# Altium footprint library DMG3414UQ-7.PcbLib: 2 footprints
Each footprint in its own frame and in the unit in brackets; x right, y up, seen from the top. Pads: shape width x height; smd on the part's side, far side on the other; paste and mask are expansions set on the pad; w line width, h text height; cw(c..) or ccw(c..) is an arc to the next point about the centre after c.
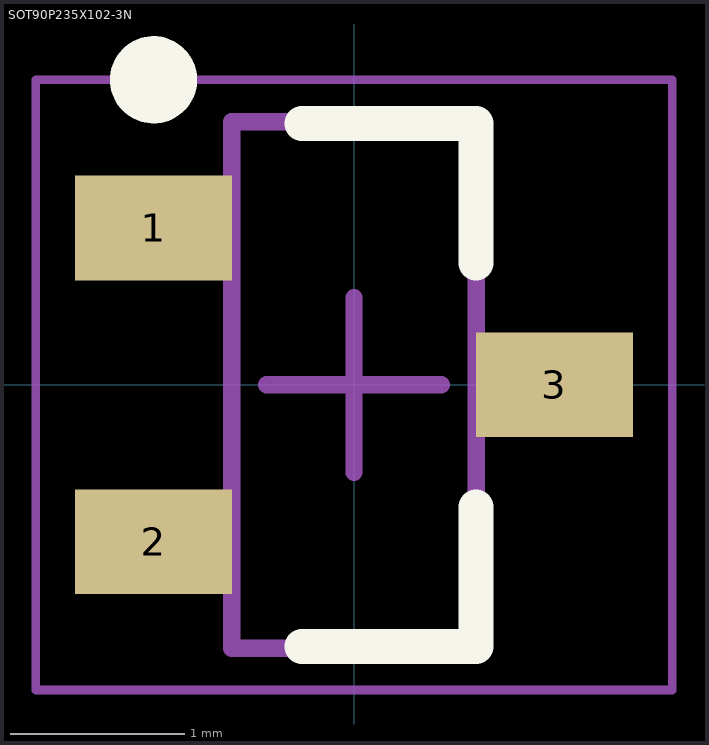
[diagram p0: the footprints below, top view; thin cyan lines are the x and y axes]

## DMG3414UQ-7 [mm]

## SOT90P235X102-3N [mm] "SOT23, 3-Leads, Body 2,92x2,35mm, Pitch 0,90mm, IPC Medium Density"
height 1.03
pads (3):
  rect 0.9x0.6 smd: 1(-1.15,0.9) 2(-1.15,-0.9) 3(1.15,0)
Top Overlay:
  circle w0.25: c-1.15,1.75 r0.125
  lines w0.2: -0.3,-1.5 0.7,-1.5 0.7,-0.7 ; -0.3,1.5 0.7,1.5 0.7,0.7
Mechanical 13:
  lines w0.1: -0.7,-1.51 0.7,-1.51 0.7,1.51 -0.7,1.51 -0.7,-1.51
Mechanical 15:
  lines w0.05: -1.825,-1.75 1.825,-1.75 1.825,1.75 -1.825,1.75 -1.825,-1.75
  lines w0.1: -0.5,0 0.5,0 ; 0,-0.5 0,0.5
3D body: height 1.03, standoff 0.01, extent -0.7,-1.51 0.7,1.51